# Altium footprint library NEOS_CAN1.PcbLib: 14 footprints
Each footprint in its own frame and in the unit in brackets; x right, y up, seen from the top. Pads: shape width x height; smd on the part's side, far side on the other; paste and mask are expansions set on the pad; w line width, h text height; cw(c..) or ccw(c..) is an arc to the next point about the centre after c.
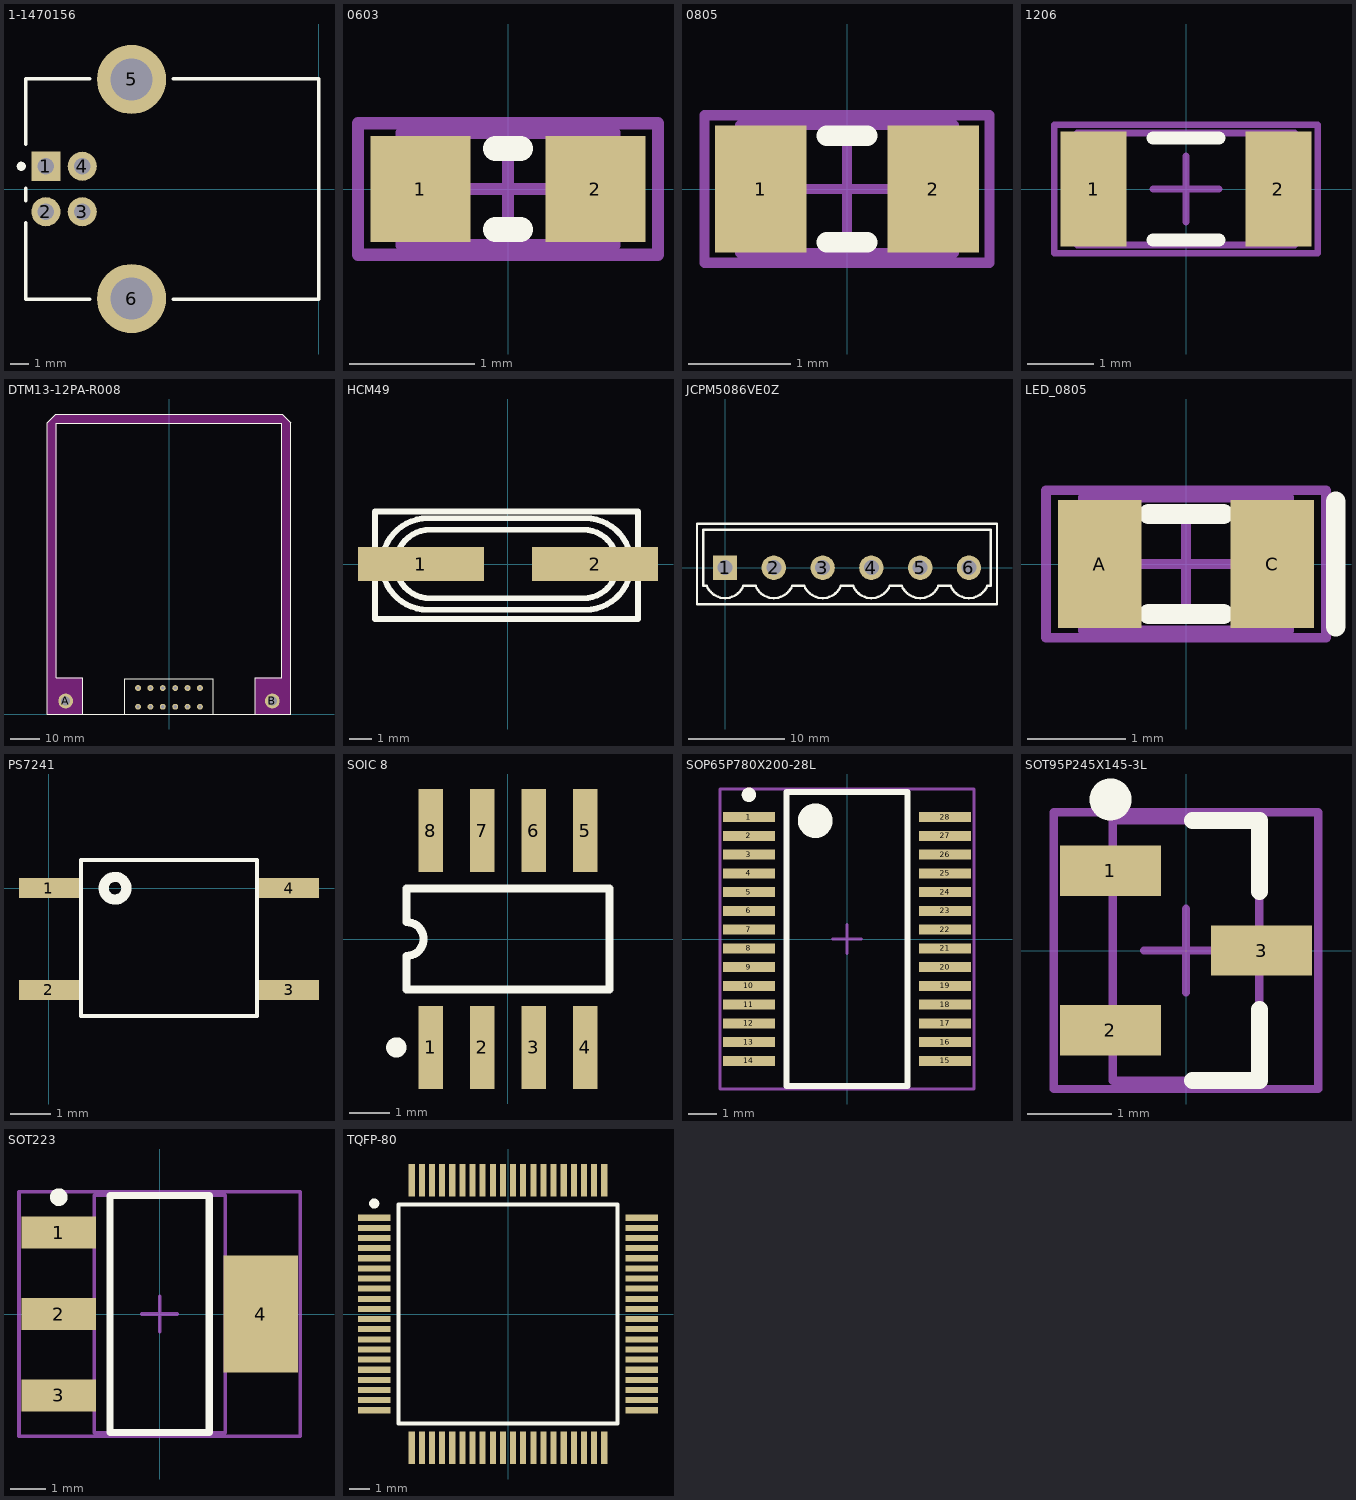
[diagram p0: the footprints below, top view; thin cyan lines are the x and y axes]

## 1-1470156 [mm]
pads (6):
  rect 1.6x1.6 hole 0.92: 1(-15.01,1.25)
  round 1.6 hole 0.92: 2(-15.01,-1.25) 3(-13.01,-1.25) 4(-13.01,1.25)
  round 3.8 hole 2.3: 5(-10.3,6.02) 6(-10.3,-6.02)
Top Overlay:
  circle w0.25: c-16.36,1.25 r0.125
  lines w0.2: -16.12,-1.85 -16.12,-6.05 -12.6,-6.05 ; -16.12,-0.65 -16.12,0.05 ; -16.12,2.45 -16.12,6.05 -12.6,6.05 ; -8,-6.05 -0.02,-6.05 -0.02,6.05 -8,6.05
Mechanical 1:
  lines w0.1: 0,-6.05 0,6.05
  text "PCB Edge" at -0.325,-5.651 h0.25

## 0603 [mm]
pads (2):
  rect 0.8x0.85 smd: 1(-0.7,0) 2(0.7,0)
Top Overlay:
  lines w0.2: -0.1,-0.325 0.1,-0.325 ; -0.1,0.325 0.1,0.325
Mechanical 13:
  lines w0.1: -0.85,-0.45 0.85,-0.45 0.85,0.45 -0.85,0.45 -0.85,-0.45
Mechanical 15:
  lines w0.1: -0.45,0 0.45,0 ; 0,-0.45 0,0.45 ; -1.2,-0.525 1.2,-0.525 1.2,0.525 -1.2,0.525 -1.2,-0.525
3D body: height 0.45, standoff 0, extent -0.85,-0.45 0.85,0.45

## 0805 [mm]
pads (2):
  rect 0.9x1.25 smd: 1(-0.85,0) 2(0.85,0)
Top Overlay:
  lines w0.2: -0.2,-0.525 0.2,-0.525 ; -0.2,0.525 0.2,0.525
Mechanical 13:
  lines w0.1: -1.05,-0.63 1.05,-0.63 1.05,0.63 -1.05,0.63 -1.05,-0.63
Mechanical 15:
  lines w0.1: -0.5,0 0.5,0 ; 0,-0.5 0,0.5 ; -1.4,-0.725 1.4,-0.725 1.4,0.725 -1.4,0.725 -1.4,-0.725
3D body: height 0.6, standoff 0, extent -1.05,-0.63 1.05,0.63

## 1206 [mm]
pads (2):
  rect 1x1.75 smd: 1(-1.4,0) 2(1.4,0)
Top Overlay:
  lines w0.2: -0.5,-0.775 0.5,-0.775 ; -0.5,0.775 0.5,0.775
Mechanical 13:
  lines w0.1: -1.65,-0.85 1.65,-0.85 1.65,0.85 -1.65,0.85 -1.65,-0.85
Mechanical 15:
  lines w0.1: -0.5,0 0.5,0 ; 0,-0.5 0,0.5 ; -2,-0.975 2,-0.975 2,0.975 -2,0.975 -2,-0.975
3D body: height 0.55, standoff 0, extent -1.65,-0.85 1.65,0.85

## DTM13-12PA-R008 [mm]
pads (14):
  round 2 hole 1.1: 1(10.48,2.45) 2(6.29,2.45) 3(2.1,2.45) 4(-2.1,2.45) 5(-6.29,2.45) 6(-10.48,2.45) 7(-10.48,8.8) 8(-6.29,8.8) 9(-2.1,8.8) 10(2.1,8.8) 11(6.29,8.8) 12(10.48,8.8)
  round 5 hole 3: A(-35,4.41) B(35,4.41)
Top Overlay:
  lines w0.2: -41.275,98.6 -41.275,0 ; 41.275,98.6 41.275,0 ; -41.275,0 -29.275,0 -29.275,12.2 -38.25,12.2 -38.25,98.55 38.25,98.55 38.25,12.2 29.275,12.2 29.275,0 ; -41.275,0 0,0 ; 0,0 -15,0 -15,12 15,12 15,0 ; 0,0 15,0 ; 0,0 15,0 ; 0,0 15,0 ; 0,0 41.275,0 ; 29.275,0 41.275,0 ; 29.275,0 41.275,0
  lines w0.254: -41.275,98.6 -38.275,101.6 0,101.6 38.275,101.6 41.275,98.6
Keep-Out Layer:
  region: 29.275,0 41.275,0 41.275,98.575 38.275,101.575 38.275,101.6 -38.275,101.6 -41.275,98.6 -41.275,0.025 -41.25,0 -29.275,0 -29.275,12.175 -29.325,12.225 -38.25,12.225 -38.25,98.55 38.25,98.55 38.25,12.275 38.175,12.2 29.275,12.2
3D body: height 26.3, standoff -9, extent -54.716,-26.162 54.716,10.16

## HCM49 [mm]
pads (2):
  rect 5.5x1.5 smd: 1(-3.8,0) 2(3.82,0)
Top Overlay:
  rectangle: 5.7,-0.6 6.3,0.6
  rectangle: -6.4,-0.6 -5.8,0.6
  lines w0.254: -5.8,-2.4 -5.8,2.3 5.7,2.3 5.7,-2.4 -5.8,-2.4 ; -3.5,-2 cw(c-3.5,0) -3.5,2 3.4,2 cw(c3.4,0) 3.4,-2 -3.5,-2 ; -3.4,-1.5 cw(c-3.4,0) -3.4,1.5 3.3,1.5 cw(c3.3,0) 3.3,-1.5 -3.4,-1.5

## JCPM5086VE0Z [mil]
pads (6):
  rect 100x100 / inner round 100 / far side rect 100x100 hole 62: 1(0,0)
  round 100 hole 62: 2(200,0) 3(400,0) 4(600,0) 5(800,0) 6(1000,0)
Top Overlay:
  lines w10: -75,-75 -90,-75 -90,155 1090,155 1090,-75 1075,-75 ; -74.83,-75 ccw(c0,-44) 74.83,-75 ; 75,-75 125,-75 ; 125.17,-75 ccw(c200,-44) 274.83,-75 ; 275,-75 325,-75 ; 325.17,-75 ccw(c400,-44) 474.83,-75 ; 475,-75 525,-75 ; 525.17,-75 ccw(c600,-44) 674.83,-75 ; 675,-75 725,-75 ; 725.17,-75 ccw(c800,-44) 874.83,-75 ; 875,-75 925,-75 ; 925.17,-75 ccw(c1000,-44) 1074.83,-75 ; -115,-150 1115,-150 1115,180 -115,180 -115,-150
3D body: height 472.44, standoff -153.54, extent -100,-150 1100,188.58

## LED_0805 [mm]
pads (2):
  rect 0.85x1.3 smd: A(-0.875,0) C(0.875,0)
Top Overlay:
  lines w0.2: -0.381,-0.508 0.381,-0.508 ; -0.381,0.508 0.381,0.508 ; 1.524,-0.635 1.524,0.635
Mechanical 13:
  lines w0.1: -1.05,-0.675 1.05,-0.675 1.05,0.675 -1.05,0.675 -1.05,-0.675
Mechanical 15:
  lines w0.1: -0.5,0 0.5,0 ; 0,-0.5 0,0.5 ; -1.425,-0.75 1.425,-0.75 1.425,0.75 -1.425,0.75 -1.425,-0.75
3D body: height 1.1, standoff 0, extent -1.05,-0.675 1.05,0.675

## PS7241 [mm]
pads (4):
  rect 1.5x0.5 smd: 1(0,0) 2(0,-2.54) 3(6,-2.54) 4(6,0)
Top Overlay:
  circle w0.254: c1.651,0 r0.284
  lines w0.1: 0.8,-3.2 5.2,-3.2 5.2,0.7 0.8,0.7 0.8,-3.2
3D body: height 2.05, standoff 0.1, extent 0.801,-3.199 5.199,0.699

## SOIC 8 [mm]
pads (8):
  rect 0.6x2.05 smd: 1(-1.905,-2.675) 2(-0.635,-2.675) 3(0.635,-2.675) 4(1.905,-2.675) 5(1.905,2.675) 6(0.635,2.675) 7(-0.635,2.675) 8(-1.905,2.675)
Top Overlay:
  circle w0.25: c-2.755,-2.675 r0.125
  lines w0.2: -2.5,-0.417 -2.5,-1.25 2.5,-1.25 2.5,1.25 -2.5,1.25 -2.5,0.417 ; -2.5,-0.417 ccw(c-2.5,0) -2.5,0.417

## SOP65P780X200-28L [mm]
pads (28):
  rect 1.8x0.35 smd: 1(-3.4,4.225) 2(-3.4,3.575) 3(-3.4,2.925) 4(-3.4,2.275) 5(-3.4,1.625) 6(-3.4,0.975) 7(-3.4,0.325) 8(-3.4,-0.325) 9(-3.4,-0.975) 10(-3.4,-1.625) 11(-3.4,-2.275) 12(-3.4,-2.925) 13(-3.4,-3.575) 14(-3.4,-4.225) 15(3.4,-4.225) 16(3.4,-3.575) 17(3.4,-2.925) 18(3.4,-2.275) 19(3.4,-1.625) 20(3.4,-0.975) 21(3.4,-0.325) 22(3.4,0.325) 23(3.4,0.975) 24(3.4,1.625) 25(3.4,2.275) 26(3.4,2.925) 27(3.4,3.575) 28(3.4,4.225)
Top Overlay:
  circle w0.25: c-3.4,5 r0.125
  circle w0.6: c-1.1,4.1 r0.3
  lines w0.2: -2.1,-5.1 -2.1,5.1 2.1,5.1 2.1,-5.1 -2.1,-5.1
Mechanical 13:
  circle w0.1: c-1.1,4.1 r0.5
  lines w0.1: -2.1,-5.1 -2.1,5.1 2.1,5.1 2.1,-5.1 -2.1,-5.1
Mechanical 15:
  lines w0.1: -0.5,0 0.5,0 ; 0,-0.5 0,0.5 ; -4.4,-5.2 -4.4,5.2 4.4,5.2 4.4,-5.2 -4.4,-5.2
3D body: height 2, standoff 0.25, extent -2.1,-5.1 2.1,5.1

## SOT95P245X145-3L [mm]
pads (3):
  rect 1.2x0.6 smd: 1(-0.9,0.95) 2(-0.9,-0.95) 3(0.9,0)
Top Overlay:
  circle w0.25: c-0.9,1.8 r0.125
  lines w0.2: 0.075,-1.55 0.875,-1.55 0.875,-0.7 ; 0.075,1.55 0.875,1.55 0.875,0.7
Mechanical 13:
  lines w0.1: -0.875,-1.55 -0.875,1.55 0.875,1.55 0.875,-1.55 -0.875,-1.55
Mechanical 15:
  lines w0.1: -0.5,0 0.5,0 ; 0,-0.5 0,0.5 ; -1.575,-1.65 -1.575,1.65 1.575,1.65 1.575,-1.65 -1.575,-1.65
3D body: height 1.45, standoff 0.15, extent -0.875,-1.55 0.875,1.55

## SOT223 [mm]
pads (4):
  rect 2.1x0.9 smd: 1(-2.85,2.3) 2(-2.85,0) 3(-2.85,-2.3)
  rect 2.1x3.3 smd: 4(2.85,0)
Top Overlay:
  circle w0.25: c-2.85,3.3 r0.125
  lines w0.2: -1.4,-3.35 1.4,-3.35 1.4,3.35 -1.4,3.35 -1.4,-3.35
Mechanical 13:
  lines w0.1: -1.85,-3.35 1.85,-3.35 1.85,3.35 -1.85,3.35 -1.85,-3.35
Mechanical 15:
  lines w0.1: -0.5,0 0.5,0 ; 0,-0.5 0,0.5 ; -3.975,-3.45 3.975,-3.45 3.975,3.45 -3.975,3.45 -3.975,-3.45
3D body: height 1.75, standoff -0.05, extent -3.541,-3.347 3.759,3.353

## TQFP-80 [mm]
pads (80):
  rect 1.6x0.3 smd: 1(-6.6,4.75) 2(-6.6,4.25) 3(-6.6,3.75) 4(-6.6,3.25) 5(-6.6,2.75) 6(-6.6,2.25) 7(-6.6,1.75) 8(-6.6,1.25) 9(-6.6,0.75) 10(-6.6,0.25) 11(-6.6,-0.25) 12(-6.6,-0.75) 13(-6.6,-1.25) 14(-6.6,-1.75) 15(-6.6,-2.25) 16(-6.6,-2.75) 17(-6.6,-3.25) 18(-6.6,-3.75) 19(-6.6,-4.25) 20(-6.6,-4.75) 41(6.6,-4.75) 42(6.6,-4.25) 43(6.6,-3.75) 44(6.6,-3.25) 45(6.6,-2.75) 46(6.6,-2.25) 47(6.6,-1.75) 48(6.6,-1.25) 49(6.6,-0.75) 50(6.6,-0.25) 51(6.6,0.25) 52(6.6,0.75) 53(6.6,1.25) 54(6.6,1.75) 55(6.6,2.25) 56(6.6,2.75) 57(6.6,3.25) 58(6.6,3.75) 59(6.6,4.25) 60(6.6,4.75)
  rect 0.3x1.6 smd: 21(-4.75,-6.6) 22(-4.25,-6.6) 23(-3.75,-6.6) 24(-3.25,-6.6) 25(-2.75,-6.6) 26(-2.25,-6.6) 27(-1.75,-6.6) 28(-1.25,-6.6) 29(-0.75,-6.6) 30(-0.25,-6.6) 31(0.25,-6.6) 32(0.75,-6.6) 33(1.25,-6.6) 34(1.75,-6.6) 35(2.25,-6.6) 36(2.75,-6.6) 37(3.25,-6.6) 38(3.75,-6.6) 39(4.25,-6.6) 40(4.75,-6.6) 61(4.75,6.6) 62(4.25,6.6) 63(3.75,6.6) 64(3.25,6.6) 65(2.75,6.6) 66(2.25,6.6) 67(1.75,6.6) 68(1.25,6.6) 69(0.75,6.6) 70(0.25,6.6) 71(-0.25,6.6) 72(-0.75,6.6) 73(-1.25,6.6) 74(-1.75,6.6) 75(-2.25,6.6) 76(-2.75,6.6) 77(-3.25,6.6) 78(-3.75,6.6) 79(-4.25,6.6) 80(-4.75,6.6)
Top Overlay:
  circle w0.25: c-6.6,5.45 r0.125
  lines w0.2: -5.4,-5.4 -5.4,5.4 5.4,5.4 5.4,-5.4 -5.4,-5.4